# Altium schematic symbol library AMT (04-06-2020).SchLib: 1 symbol
Pins are listed as number, name and electrical type; pins without a type are passive.

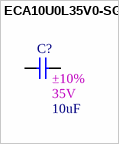
[diagram p0: symbol ECA10U0L35V0-SG]

## ECA10U0L35V0-SG
designator C?, comment value 10uF  2nd Auxiliary Field: ±10%  1st Auxiliary Field: 35V  (hidden comment: CAP CER 10UF 35V X7R 1206)
Manufacturer: TDK Corporation; Vendor Part Number: 445-174428-1-ND; Manufacturer Part Number: CGA5L1X7R1V106K160AC; Internal Part Number: ECA10U0L35V0-SG; Vendor Name: Digi-Key; 3rd Auxiliary Field: RoHS Compliant; 4th Auxiliary Field: AEC-Q200; Component Height (mm): 1.80mm; Temp Co: -55°C ~ 125°C; Part Type: CAP CER 10UF 35V X7R 1206
footprint SMDC1206
pins: 1, 2